# EAGLE library part TDA8552TS (library Pygmy)
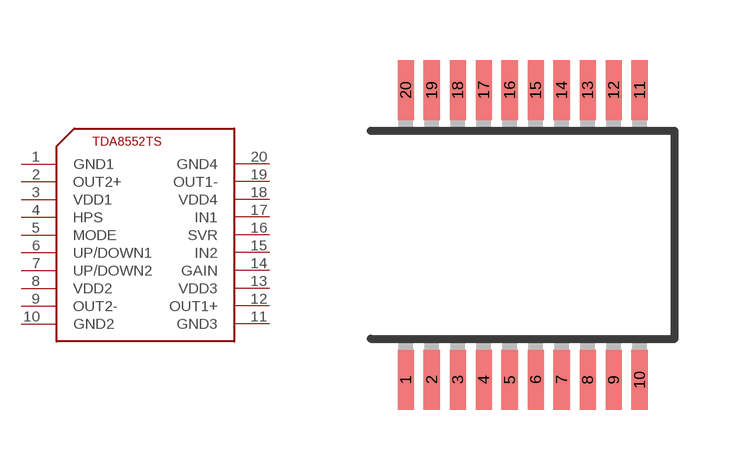
[diagram p31: symbol with the pads of SSOP20; footprint SSOP20]

Designator prefix -

## TDA8552TS  [SSOP20]
1  GND1
2  OUT2+
3  VDD1
4  HPS
5  MODE
6  UP/DOWN1
7  UP/DOWN2
8  VDD2
9  OUT2-
10  GND2
11  GND3
12  OUT1+
13  VDD3
14  GAIN
15  IN2
16  SVR
17  IN1
18  VDD4
19  OUT1-
20  GND4

## Footprint SSOP20 (pad centres in mm)
Shrink Small Outline Package package type SS
smd 0.4 x 1.5: 1 -2.925,-3.625; 2 -2.275,-3.625; 3 -1.625,-3.625; 4 -0.975,-3.625; 5 -0.325,-3.625; 6 0.325,-3.625; 7 0.975,-3.625; 8 1.625,-3.625; 9 2.275,-3.625; 10 2.925,-3.625; 11 2.925,3.625; 12 2.275,3.625; 13 1.625,3.625; 14 0.975,3.625; 15 0.325,3.625; 16 -0.325,3.625; 17 -0.975,3.625; 18 -1.625,3.625; 19 -2.275,3.625; 20 -2.925,3.625